# Altium footprint library STM32F4_OSD_V12.PcbLib: 23 footprints (part 1 of 2)
Each footprint in its own frame and in the unit in brackets; x right, y up, seen from the top. Pads: shape width x height; smd on the part's side, far side on the other; paste and mask are expansions set on the pad; w line width, h text height; cw(c..) or ccw(c..) is an arc to the next point about the centre after c.
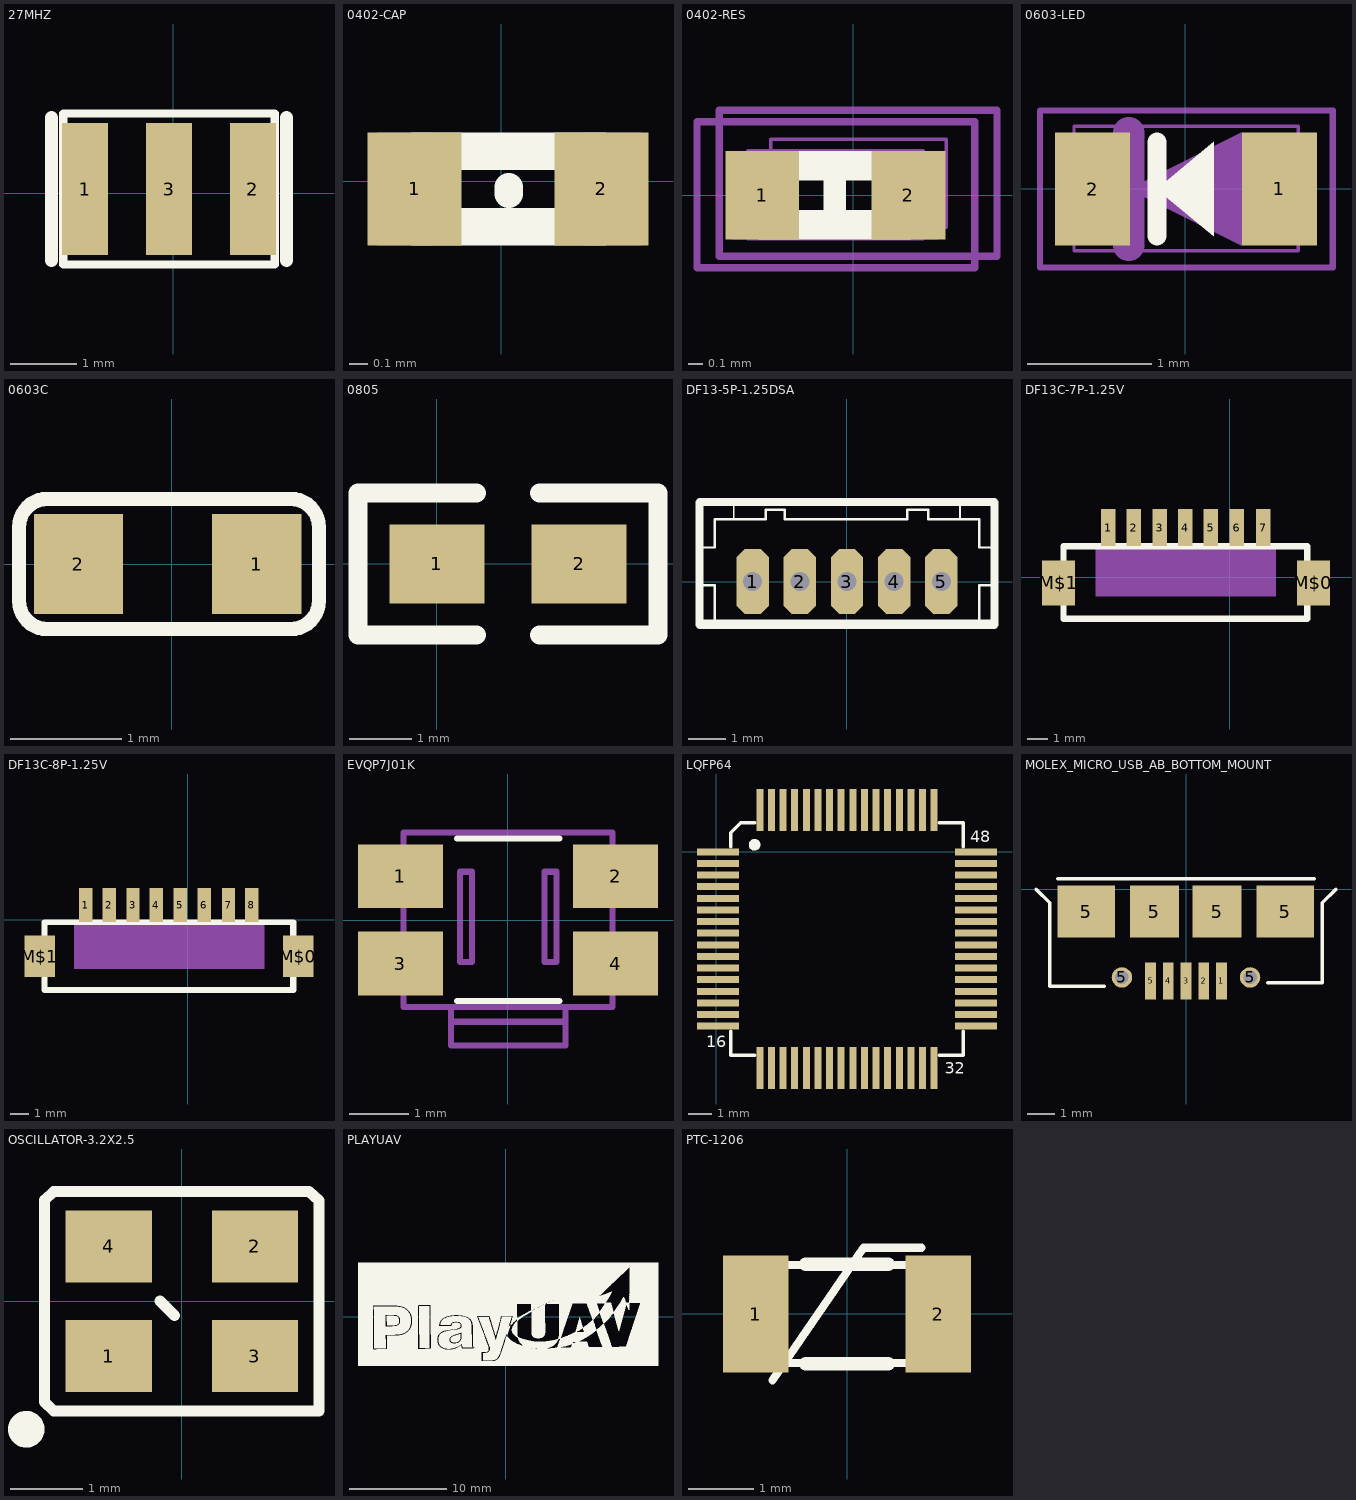
[diagram p0: the footprints below, top view; thin cyan lines are the x and y axes]

## 27MHZ [mm]
pads (3):
  rect 0.7x2 smd: 1(-1.334,0.064) 2(1.206,0.064) 3(-0.064,0.064)
Top Overlay:
  lines w0.127: -1.663,-1.079 -1.663,1.206 1.536,1.206 1.536,-1.079 -1.663,-1.079
  lines w0.203: -1.842,-1.016 -1.841,1.143 ; 1.714,-1.016 1.714,1.143

## 0402-CAP [mil] "0402-CAP"
pads (2):
  rect 20x24 smd: 1(-18.37,-1.6) 2(21.31,-1.6)
Top Overlay:
  lines w6: 1.63,-2.6 1.63,-1.2
  lines w8: -18.37,-9.6 21.63,-9.6 ; -18.37,6.4 21.63,6.4
Mechanical 2:
Mechanical 4:
Mechanical 16:
  region: 29.66,10.4 17.66,10.4 17.66,-13.6 29.66,-13.6
  region: -14.34,10.4 -26.34,10.4 -26.34,-13.6 -14.34,-13.6

## 0402-RES [mil] "0402-RES"
pads (2):
  rect 20x24 smd: 1(-24.68,0) 2(15,0)
Top Overlay:
  rectangle: -8,-11.79 -2,12.02
  lines w8: -25,-8 15,-8 ; -25,8 15,8
Mechanical 2:
Mechanical 4:
Mechanical 16:
  rectangle: 11,-12 23,12
  rectangle: -33,-12 -21,12
Mechanical 27:
  lines w2: -42.4,-19.68 -42.4,20 33,20 33,-19.68 -42.4,-19.68 ; -36.37,-16.6 -36.37,23.09 39.03,23.09 39.03,-16.6 -36.37,-16.6
Mechanical 34:
  lines w1: -28.62,-11.81 -28.62,12 19,12 19,-11.81 -28.62,-11.81 ; -22.37,-8.6 -22.37,15.21 25.25,15.21 25.25,-8.6 -22.37,-8.6

## 0603-LED [mil] "0603-LED"
pads (2):
  rect 24x36 smd: 1(30,0) 2(-29.53,0)
Top Overlay:
  region: -9,0 9,15 9,-15
  lines w6: -9,-15 -9,15
Mechanical 3:
Mechanical 5:
Mechanical 16:
  region: -18,0 18,18 18,-18
  lines w1: -35.43,-19.69 36,-19.69 36,20 -35.43,20 -35.43,-19.69
  lines w2: -46.26,-25 47,-25 47,25 -46.26,25 -46.26,-25
  lines w10: -18,-18 -18,18

## 0603C [mm]
height 2.65
pads (2):
  rect 0.8x0.9 smd: 1(0.762,0) 2(-0.838,0)
Top Overlay:
  lines w0.127: 1.041,-0.584 -1.118,-0.584 cw(c-1.118,-0.33) -1.372,-0.33 -1.372,0.33 cw(c-1.118,0.33) -1.118,0.584 1.067,0.584 cw(c1.067,0.33) 1.321,0.33 1.321,-0.33 cw(c1.067,-0.33) 1.067,-0.584

## 0805 [mil]
pads (2):
  rect 60x50 smd: 1(0,0) 2(90,0)
Top Overlay:
  lines w12: 25,-45 -50,-45 -50,45 25,45 ; 65,-45 140,-45 140,45 65,45

## DF13-5P-1.25DSA [mm]
pads (5):
  oct 0.856x1.711 hole 0.5: 1(-2.5,0) 2(-1.25,0) 3(0,0) 4(1.25,0) 5(2.5,0)
Top Overlay:
  rectangle: -3.975,-1.204 3.975,-1.004
  lines w0.051: -3,1.683 -3,2.033 ; 3,1.683 3,2.133
  lines w0.062: -3.85,-0.1 -3.5,-0.1 -3.5,-1.05 ; -3.85,0.9 -3.5,0.9 -3.5,1.65 -2.15,1.65 -2.15,1.9 -1.65,1.9 -1.65,1.65 1.6,1.65 1.6,1.9 2.15,1.9 2.15,1.65 3.5,1.65 3.5,0.9 3.85,0.9 ; 3.5,-1.05 3.5,-0.1 3.85,-0.1
  lines w0.127: -3.95,-1.15 3.95,-1.15 3.95,2.11 -3.95,2.11 -3.95,-1.15
  lines w0.203: -3.9,-1.15 3.9,-1.15 3.9,2.108 -3.9,2.108 -3.9,-1.15

## DF13C-7P-1.25V [mil]
pads (9):
  rect 28x71 smd: 1(-233.82,96) 2(-184.61,96) 3(-135,96) 4(-86,96) 5(-36,96) 6(14,96) 7(65,96)
  rect 63x87 smd: M$0(162,-10.87) M$1(-330.28,-10.87)
Top Overlay:
  lines w12: -320.43,-80 150,-80 150,60 -320.43,60 -320.43,-80
  text "." at -296.81,121 h155
Mechanical 16:
  rectangle: -258.43,-37.44 90,56.06

## DF13C-8P-1.25V [mil]
height 74.8
pads (10):
  rect 28x71 smd: 1(-213.82,31) 2(-164.61,31) 3(-115,31) 4(-66,31) 5(-16,31) 6(34,31) 7(85,31) 8(134,31)
  rect 63x87 smd: M$0(231,-75.87) M$1(-310.28,-75.87)
Top Overlay:
  lines w12: 221,-146.73 221,-5 ; -300.43,-146.73 220,-146.73 220,-5 -300.43,-5 -300.43,-146.73
  text "." at -276.81,56 h155
Mechanical 16:
  rectangle: -238.43,-102.44 160,-8.94

## EVQP7J01K [mil] "EVQP7J01K"
height 74.8
pads (4):
  rect 56x42 smd: 1(-70.87,29) 2(71,29) 3(-70.87,-28.54) 4(71,-28.54)
Top Overlay:
  lines w4: -82.68,20 -82.68,24 ; -33.46,-53.15 34,-53.15 ; -33.46,54 34,54
Mechanical 2:
Mechanical 4:
Mechanical 16:
  lines w4: -82.68,20 -70.87,20 ; -82.68,24 -90.55,24 -90.55,40 -70.87,40 ; -70.87,-39.37 -90.55,-39.37 -90.55,-23.62 -82.68,-23.62 -82.68,-19.68 -70.87,-19.68 ; 38,-66.93 -37.4,-66.93 ; 71,-39.37 91,-39.37 91,-23.62 83,-23.62 83,-19.68 71,-19.68 ; 71,20 83,20 83,24 91,24 91,40 71,40 ; -37.4,-66.93 -37.4,-57.09 ; -37.4,-66.93 -37.4,-82.68 38,-82.68 38,-57.09 ; -37.4,-57.09 38,-57.09 ; -37.4,-57.09 -68.9,-57.09 -68.9,58 69,58 69,-57.09 38,-57.09 ; -31.5,-27.56 -23.62,-27.56 -23.62,32 -31.5,32 -31.5,-27.56 ; 24,-27.56 32,-27.56 32,32 24,32 24,-27.56

## LQFP64 [mm]
pads (64):
  rect 1.8x0.3 smd: 1(0.075,0.003) 2(0.075,-0.497) 3(0.075,-0.997) 4(0.075,-1.497) 5(0.075,-1.997) 6(0.075,-2.497) 7(0.075,-2.997) 8(0.075,-3.497) 9(0.075,-3.997) 10(0.075,-4.497) 11(0.075,-4.997) 12(0.075,-5.497) 13(0.075,-5.997) 14(0.075,-6.497) 15(0.075,-6.997) 16(0.075,-7.497) 33(11.175,-7.497) 34(11.175,-6.997) 35(11.175,-6.497) 36(11.175,-5.997) 37(11.175,-5.497) 38(11.175,-4.997) 39(11.175,-4.497) 40(11.175,-3.997) 41(11.175,-3.497) 42(11.175,-2.997) 43(11.175,-2.497) 44(11.175,-1.997) 45(11.175,-1.497) 46(11.175,-0.997) 47(11.175,-0.497) 48(11.175,0.003)
  rect 0.3x1.8 smd: 17(1.875,-9.297) 18(2.375,-9.297) 19(2.875,-9.297) 20(3.375,-9.297) 21(3.875,-9.297) 22(4.375,-9.297) 23(4.875,-9.297) 24(5.375,-9.297) 25(5.875,-9.297) 26(6.375,-9.297) 27(6.875,-9.297) 28(7.375,-9.297) 29(7.875,-9.297) 30(8.375,-9.297) 31(8.875,-9.297) 32(9.375,-9.297) 49(9.375,1.803) 50(8.875,1.803) 51(8.375,1.803) 52(7.875,1.803) 53(7.375,1.803) 54(6.875,1.803) 55(6.375,1.803) 56(5.875,1.803) 57(5.375,1.803) 58(4.875,1.803) 59(4.375,1.803) 60(3.875,1.803) 61(3.375,1.803) 62(2.875,1.803) 63(2.375,1.803) 64(1.875,1.803)
Top Overlay:
  circle w0.25: c1.65,0.303 r0.125
  lines w0.152: 0.625,-7.722 0.625,-8.747 1.65,-8.747 ; 0.625,0.228 0.625,0.828 1.05,1.253 1.65,1.253 ; 9.6,-8.747 10.625,-8.747 10.625,-7.722 ; 9.6,1.253 10.625,1.253 10.625,0.228
  text "16" at -0.425,-8.397 h0.5
  text "32" at 9.825,-9.547 h0.5
  text "48" at 10.925,0.403 h0.5

## MOLEX_MICRO_USB_AB_BOTTOM_MOUNT [mm]
height 1.9
pads (11):
  rect 0.4x1.35 smd: 1(1.3,-3.365) 2(0.65,-3.365) 3(0,-3.365) 4(-0.65,-3.366) 5(-1.3,-3.365)
  rect 2.1x1.9 smd: 5(-3.658,-0.825) 5(3.642,-0.825)
  round 0.75 hole 0.5: 5(-2.35,-3.239) 5(2.35,-3.239)
  rect 1.8x1.9 smd: 5(-1.157,-0.826) 5(1.143,-0.826)
Top Overlay:
  lines w0.127: -5.5,0 -5,-0.5 -5,-3.556 -3,-3.556 ; -4.7,0.381 4.7,0.381 ; 3,-3.429 5,-3.429 5,-0.5 5.5,0
Mechanical 1:
  lines w0.83: -4.088,-1.164 -4.088,-0.484 ; 4.072,-1.164 4.072,-0.484

## OSCILLATOR-3.2X2.5 [mm] "OSCILLATOR-3.2X2.5"
pads (4):
  rect 1.2x1 smd: 1(-1.016,-0.762) 2(1.016,0.762) 3(1.016,-0.762) 4(-1.016,0.762)
Top Overlay:
  circle w0.305: c-2.159,-1.778 r0.102
  lines w0.152: -0.3,0 -0.1,-0.2 ; -1.905,-1.397 -1.905,1.406 -1.778,1.524 1.766,1.524 1.905,1.397 1.905,-1.524 -1.778,-1.524 -1.905,-1.397
Mechanical 2:
Mechanical 4:
Mechanical 16:
  lines w0.025: -1.905,-1.397 -1.905,1.406 -1.778,1.524 1.778,1.524 1.905,1.408 1.905,-1.524 -1.778,-1.524 -1.905,-1.397

## PLAYUAV [mm]
height 1.9
Top Overlay:
  drawing of 3618 lines, arcs and shapes, not listed

## PLAYUAV - duplicate [mm]
Top Layer:
  text "PLAYUAV" at -3.886,0.025 h1.52

## PTC-1206 [mm]
height 1.9
pads (2):
  rect 1x1.8 smd: 1(-1.4,0) 2(1.4,0)
Top Overlay:
  lines w0.127: -1.143,-1.016 0.254,1.016 1.143,1.016 ; -1.5,-0.75 1.5,-0.75 1.5,0.75 -1.5,0.75 -1.5,-0.75
  lines w0.203: -0.635,-0.762 0.635,-0.762 ; -0.635,0.762 0.635,0.762